# EAGLE library part DG3XX-06 (library _mtvl.connectors)
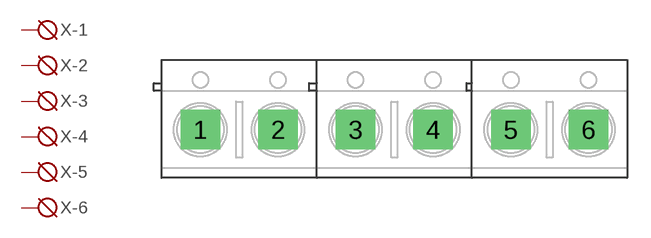
[diagram p24: symbol with the pads of DG306-5.0-06P; footprint DG306-5.0-06P]

Designator prefix X; gates -1=KL -2=KL -3=KL -4=KL -5=KL -6=KL

## DG3XX-06  [DG306-5.0-06P]
1  -1:KL  pas
2  -2:KL  pas
3  -3:KL  pas
4  -4:KL  pas
5  -5:KL  pas
6  -6:KL  pas

## Footprint DG306-5.0-06P (pad centres in mm)
drill 1.1 pad 2.54 square: 1 -12.5,0; 2 -7.5,0; 3 -2.5,0; 4 2.5,0; 5 7.5,0; 6 12.5,0